# EAGLE library part MPU6050_BREAKOUT (library mqp_custom_parts)
PIN HEADER
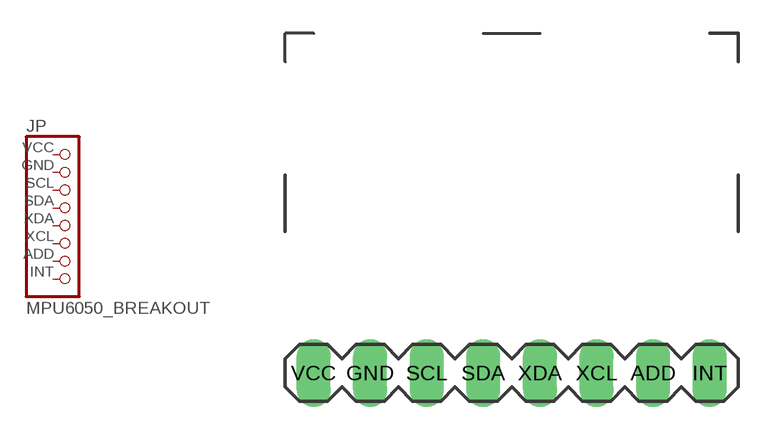
[diagram p1: symbol with the pads of MPU6050; footprint MPU6050]

Designator prefix JP

## MPU6050_BREAKOUT  [MPU6050]
ADD  ADD  pas
GND  GND  pas
INT  INT  pas
SCL  SCL  pas
SDA  SDA  pas
VCC  VCC  pas
XCL  XCL  pas
XDA  XDA  pas

## Footprint MPU6050 (pad centres in mm)
PIN HEADER
drill 1.016 long: ADD 6.35,0; GND -6.35,0; INT 8.89,0; SCL -3.81,0; SDA -1.27,0; VCC -8.89,0; XCL 3.81,0; XDA 1.27,0